# Altium footprint library PCB1.PcbLib: 30 footprints (part 1 of 2)
Each footprint in its own frame and in the unit in brackets; x right, y up, seen from the top. Pads: shape width x height; smd on the part's side, far side on the other; paste and mask are expansions set on the pad; w line width, h text height; cw(c..) or ccw(c..) is an arc to the next point about the centre after c.
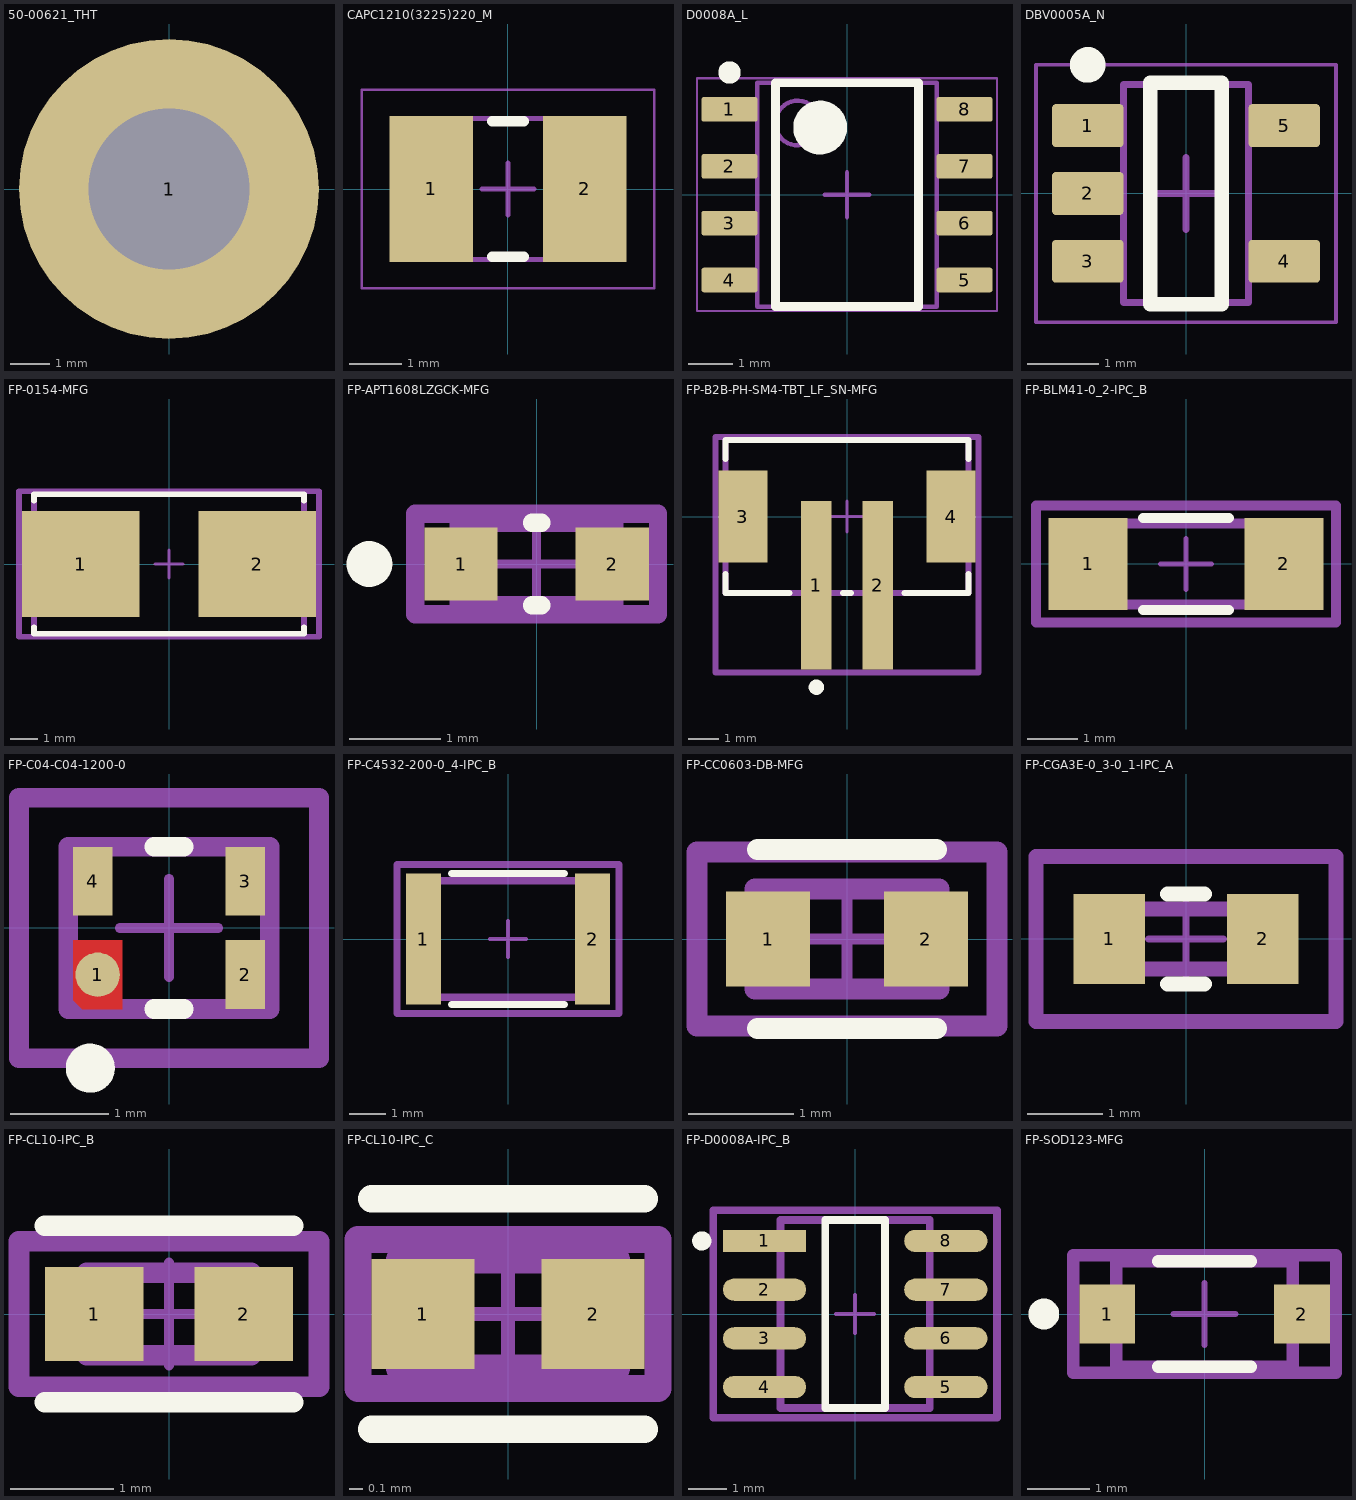
[diagram p0: the footprints below, top view; thin cyan lines are the x and y axes]

## 50-00621_THT [mm] "Connector, dc plug, 4.0x1.7x21.3 mm, mounted as THT"
height 0.6
pads (1):
  round 7.62 hole 4.1: 1(0,0)
3D body "50-00621.STEP": height 10.46, standoff -10.84, extent -2.85,-2.848 2.95,2.848

## CAPC1210(3225)220_M [mm] "Chip Capacitor, Body 3.2x2.5mm, Height 2.2mm, IPC Low Density"
height 2.2
pads (2):
  rect 1.6x2.8 smd: 1(-1.475,0) 2(1.475,0)
Top Overlay:
  lines w0.2: -0.3,-1.3 0.3,-1.3 ; -0.3,1.3 0.3,1.3
Mechanical 13:
  lines w0.1: -1.7,-1.35 1.7,-1.35 1.7,1.35 -1.7,1.35 -1.7,-1.35
Mechanical 15:
  lines w0.05: -2.8,-1.9 2.8,-1.9 2.8,1.9 -2.8,1.9 -2.8,-1.9
  lines w0.1: -0.5,0 0.5,0 ; 0,-0.5 0,0.5
3D body: height 2.2, standoff 0, extent 0.95,-1.35 1.7,1.35
3D body: height 2.2, standoff 0, extent -1.7,-1.35 -0.95,1.35
3D body: height 2.2, standoff 0, extent -0.95,-1.35 0.95,1.35

## D0008A_L [mm] "SOIC, 8-Leads, Body 5x4mm, Pitch 1.27mm, IPC High Density"
height 1.75
pads (8):
  rrect18% 1.25x0.55 smd: 1(-2.625,1.905) 2(-2.625,0.635) 3(-2.625,-0.635) 4(-2.625,-1.905) 5(2.625,-1.905) 6(2.625,-0.635) 7(2.625,0.635) 8(2.625,1.905)
Top Overlay:
  circle w0.6: c-0.6,1.5 r0.3
  circle w0.25: c-2.625,2.73 r0.125
  lines w0.2: -1.6,-2.5 1.6,-2.5 1.6,2.5 -1.6,2.5 -1.6,-2.5
Mechanical 1:
  text ".Designator" at -1.397,-0.254 h0.6
Mechanical 13:
  circle w0.1: c-1.1,1.6 r0.5
  lines w0.1: -2,-2.5 2,-2.5 2,2.5 -2,2.5 -2,-2.5
Mechanical 15:
  lines w0.05: -3.35,-2.6 3.35,-2.6 3.35,2.6 -3.35,2.6 -3.35,-2.6
  lines w0.1: -0.5,0 0.5,0 ; 0,-0.5 0,0.5
3D body "SOIC-8akaD0008AakaM08A.stp": height 1.63, standoff 0, extent -3,-2.45 3,2.45

## DBV0005A_N [mm] "SOT23, 5-Leads, Body 3.05x1.75mm, Pitch 0.95mm, IPC Medium Density"
height 1.45
pads (5):
  rrect17% 1x0.6 smd: 1(-1.375,0.95) 2(-1.375,0) 3(-1.375,-0.95) 4(1.375,-0.95) 5(1.375,0.95)
Top Overlay:
  circle w0.25: c-1.375,1.8 r0.125
  lines w0.2: -0.5,-1.55 0.5,-1.55 0.5,1.55 -0.5,1.55 -0.5,-1.55
Mechanical 1:
  text ".Designator" at -0.635,-0.254 h0.4
Mechanical 13:
  lines w0.1: -0.875,-1.525 -0.875,1.525 0.875,1.525 0.875,-1.525 -0.875,-1.525
Mechanical 15:
  lines w0.05: -2.1,-1.8 -2.1,1.8 2.1,1.8 2.1,-1.8 -2.1,-1.8
  lines w0.1: -0.5,0 0.5,0 ; 0,-0.5 0,0.5
3D body "DBV0005AaksMF05A.stp": height 1.08, standoff -0.01, extent -1.422,-1.461 1.422,1.46

## FP-0154-MFG [mm]
height 0.6
pads (2):
  rect 4.24x3.81 smd paste+0 mask+0: 1(-3.185,0) 2(3.185,0)
Top Overlay:
  lines w0.2: -4.865,-2.28 -4.865,-2.515 4.865,-2.515 4.865,-2.28 ; -4.865,2.28 -4.865,2.515 4.865,2.515 4.865,2.28
Top 3D Body:
  lines w0.2: -4.865,-2.515 -4.865,2.515 4.865,2.515 4.865,-2.515 -4.865,-2.515
Top Courtyard:
  lines w0.2: -5.405,-2.615 -5.405,2.615 5.405,2.615 5.405,-2.615 -5.405,-2.615
Top Assembly:
  lines w0.2: -5.405,-2.615 -5.405,2.615 5.405,2.615 5.405,-2.615 -5.405,-2.615
  text ".Designator" at 0,0.187 h1
Top Component Center:
  lines w0.1: -0.5,0 0.5,0 ; 0,-0.5 0,0.5
3D body "Fuse_Littelfuse_0154004_DR_eec.STEP": height 0.25, standoff 0, extent -5.405,-2.615 5.405,2.615

## FP-APT1608LZGCK-MFG [mm]
height 0.6
pads (2):
  rect 0.8x0.8 smd paste+0 mask+0: 1(-0.825,0) 2(0.825,0)
Top Overlay:
  circle w0.25: c-1.825,0 r0.125
  lines w0.2: -0.05,-0.45 0.05,-0.45 ; -0.05,0.45 0.05,0.45
Top 3D Body:
  lines w0.2: -0.85,-0.45 0.85,-0.45 0.85,0.45 -0.85,0.45 -0.85,-0.45
Top Courtyard:
  lines w0.2: -1.325,-0.55 1.325,-0.55 1.325,0.55 -1.325,0.55 -1.325,-0.55
Top Assembly:
  lines w0.2: -1.325,-0.55 1.325,-0.55 1.325,0.55 -1.325,0.55 -1.325,-0.55
  text ".Designator" at 0,-0.001 h1
Top Component Center:
  lines w0.1: -0.5,0 0.5,0 ; 0,-0.5 0,0.5
3D body "Diode_Kingbright_APT1608LZGCK_eec.STEP": height 0.25, standoff 0, extent -1.325,-0.55 1.325,0.55

## FP-B2B-PH-SM4-TBT_LF_SN-MFG [mm]
pads (4):
  rect 1x5.5 smd paste+0 mask+0: 1(-1,-2.25) 2(1,-2.25)
  rect 1.6x3 smd paste+0 mask+0: 3(-3.4,0) 4(3.4,0)
Top Overlay:
  circle w0.25: c-1,-5.575 r0.125
  lines w0.2: -3.975,-1.875 -3.975,-2.5 -1.875,-2.5 ; -3.975,1.875 -3.975,2.5 3.975,2.5 3.975,1.875 ; -0.125,-2.5 0.125,-2.5 ; 1.875,-2.5 3.975,-2.5 3.975,-1.875
Top 3D Body:
  lines w0.2: -3.975,-2.5 -3.975,2.5 3.975,2.5 3.975,-2.5 -3.975,-2.5
Top Courtyard:
  lines w0.2: -4.3,-5.1 -4.3,2.6 4.3,2.6 4.3,-5.1 -4.3,-5.1
Top Assembly:
  lines w0.2: -4.3,-5.1 -4.3,2.6 4.3,2.6 4.3,-5.1 -4.3,-5.1
  text ".Designator" at 0,-1.063 h1
Top Component Center:
  lines w0.1: -0.5,0 0.5,0 ; 0,-0.5 0,0.5
3D body "Conn_JST_B2B-PH-SM4-TBT_LF_SN_eec.STEP": height 0.25, standoff 0, extent -4.3,-5.1 4.3,2.6

## FP-BLM41-0_2-IPC_B [mm]
height 0.6
pads (2):
  rect 1.554x1.806 smd paste+0 mask+0: 1(-1.926,0) 2(1.926,0)
Top Overlay:
  lines w0.2: -0.849,-0.903 0.849,-0.903 ; -0.849,0.903 0.849,0.903
Top 3D Body:
  lines w0.2: -2.25,-0.8 2.25,-0.8 2.25,0.8 -2.25,0.8 -2.25,-0.8
Top Courtyard:
  lines w0.2: -2.953,-1.153 2.953,-1.153 2.953,1.153 -2.953,1.153 -2.953,-1.153
Top Assembly:
  lines w0.2: -2.953,-1.153 2.953,-1.153 2.953,1.153 -2.953,1.153 -2.953,-1.153
  text ".Designator" at 0,0.187 h1
Top Component Center:
  lines w0.1: -0.5,0 0.5,0 ; 0,-0.5 0,0.5
3D body "FBead_Murata_BLM41PG102SN1B_eec.STEP": height 0.25, standoff 0, extent -2.953,-1.153 2.953,1.153

## FP-C04-C04-1200-0 [mm]
pads (4):
  round 0.45 smd paste+0 mask+0: 1(-0.725,-0.475)
  rect 0.4x0.7 smd paste+0 mask+0: 2(0.775,-0.475) 3(0.775,0.475) 4(-0.775,0.475)
Top Layer:
  region: -0.975,-0.125 -0.475,-0.125 -0.475,-0.825 -0.883,-0.825 -0.975,-0.733
Top Overlay:
  circle w0.25: c-0.8,-1.425 r0.125
  lines w0.2: -0.15,-0.825 0.15,-0.825 ; -0.15,0.825 0.15,0.825
Top 3D Body:
  lines w0.2: -1.025,-0.825 1.025,-0.825 1.025,0.825 -1.025,0.825 -1.025,-0.825
Top Courtyard:
  lines w0.2: -1.525,-1.325 1.525,-1.325 1.525,1.325 -1.525,1.325 -1.525,-1.325
Top Assembly:
  lines w0.2: -1.525,-1.325 1.525,-1.325 1.525,1.325 -1.525,1.325 -1.525,-1.325
  text ".Designator" at 0,-0.001 h1
Top Component Center:
  lines w0.1: -0.5,0 0.5,0 ; 0,-0.5 0,0.5
3D body "Crys_Microchip_DSC6101MI2A-024_0000T_eec.STEP": height 0.25, standoff 0, extent -1.525,-1.325 1.525,1.325

## FP-C4532-200-0_4-IPC_B [mm]
height 0.6
pads (2):
  rect 0.953x3.603 smd paste+0 mask+0: 1(-2.325,0) 2(2.325,0)
Top Overlay:
  lines w0.2: -1.548,-1.802 1.548,-1.802 ; -1.548,1.802 1.548,1.802
Top 3D Body:
  lines w0.2: -2.25,-1.6 2.25,-1.6 2.25,1.6 -2.25,1.6 -2.25,-1.6
Top Courtyard:
  lines w0.2: -3.052,-2.052 3.052,-2.052 3.052,2.052 -3.052,2.052 -3.052,-2.052
Top Assembly:
  lines w0.2: -3.052,-2.052 3.052,-2.052 3.052,2.052 -3.052,2.052 -3.052,-2.052
  text ".Designator" at 0,0.187 h1
Top Component Center:
  lines w0.1: -0.5,0 0.5,0 ; 0,-0.5 0,0.5
3D body "Cap_TDK_C4532X7R1H475M200KB_eec.STEP": height 0.25, standoff 0, extent -3.052,-2.052 3.052,2.052

## FP-CC0603-DB-MFG [mm]
pads (2):
  rect 0.8x0.9 smd paste+0 mask+0: 1(-0.75,0) 2(0.75,0)
Top Overlay:
  lines w0.2: -0.85,-0.85 0.85,-0.85 ; -0.85,0.85 0.85,0.85
Top 3D Body:
  lines w0.2: -0.875,-0.475 0.875,-0.475 0.875,0.475 -0.875,0.475 -0.875,-0.475
Top Courtyard:
  lines w0.2: -1.425,-0.825 1.425,-0.825 1.425,0.825 -1.425,0.825 -1.425,-0.825
Top Assembly:
  lines w0.2: -1.425,-0.825 1.425,-0.825 1.425,0.825 -1.425,0.825 -1.425,-0.825
  text ".Designator" at 0,0.187 h1
Top Component Center:
  lines w0.1: -0.5,0 0.5,0 ; 0,-0.5 0,0.5
3D body "Cap_YAGEO_CC0603KRX7R9BB105_eec.STEP": height 0.25, standoff 0, extent -1.425,-0.825 1.425,0.825

## FP-CGA3E-0_3-0_1-IPC_A [mm]
height 0.6
pads (2):
  rect 0.956x1.206 smd paste+0 mask+0: 1(-1.025,0) 2(1.025,0)
Top Overlay:
  lines w0.2: -0.247,-0.603 0.247,-0.603 ; -0.247,0.603 0.247,0.603
Top 3D Body:
  lines w0.2: -0.8,-0.4 0.8,-0.4 0.8,0.4 -0.8,0.4 -0.8,-0.4
Top Courtyard:
  lines w0.2: -2.003,-1.103 2.003,-1.103 2.003,1.103 -2.003,1.103 -2.003,-1.103
Top Assembly:
  lines w0.2: -2.003,-1.103 2.003,-1.103 2.003,1.103 -2.003,1.103 -2.003,-1.103
  text ".Designator" at 0,0.187 h1
Top Component Center:
  lines w0.1: -0.5,0 0.5,0 ; 0,-0.5 0,0.5
3D body "Cap_TDK_CGA3E3X7R1E334K080AB_eec.STEP": height 0.25, standoff 0, extent -2.003,-1.103 2.003,1.103

## FP-CL10-IPC_B [mm]
pads (2):
  rect 0.958x0.912 smd paste+0 mask+0: 1(-0.727,0) 2(0.727,0)
Top Overlay:
  lines w0.2: -1.206,-0.856 1.206,-0.856 ; -1.206,0.856 1.206,0.856
Top 3D Body:
  lines w0.2: -0.8,-0.4 0.8,-0.4 0.8,0.4 -0.8,0.4 -0.8,-0.4
Top Courtyard:
  lines w0.2: -1.456,-0.706 1.456,-0.706 1.456,0.706 -1.456,0.706 -1.456,-0.706
Top Assembly:
  lines w0.2: -1.456,-0.706 1.456,-0.706 1.456,0.706 -1.456,0.706 -1.456,-0.706
  text ".Designator" at 0,0.187 h1
Top Component Center:
  lines w0.1: -0.5,0 0.5,0 ; 0,-0.5 0,0.5
3D body "Cap_Samsung_CL10B473KO8NNWC_eec.STEP": height 0.25, standoff 0, extent -1.456,-0.706 1.456,0.706

## FP-CL10-IPC_C [mm]
pads (2):
  rect 0.758x0.812 smd paste+0 mask+0: 1(-0.627,0) 2(0.627,0)
Top Overlay:
  lines w0.2: -1.006,-0.85 1.006,-0.85 ; -1.006,0.85 1.006,0.85
Top 3D Body:
  lines w0.2: -0.8,-0.4 0.8,-0.4 0.8,0.4 -0.8,0.4 -0.8,-0.4
Top Courtyard:
  lines w0.2: -1.106,-0.55 1.106,-0.55 1.106,0.55 -1.106,0.55 -1.106,-0.55
Top Assembly:
  lines w0.2: -1.106,-0.55 1.106,-0.55 1.106,0.55 -1.106,0.55 -1.106,-0.55
  text ".Designator" at 0,0.187 h1
Top Component Center:
  lines w0.1: -0.5,0 0.5,0 ; 0,-0.5 0,0.5
3D body "Cap_Samsung_CL10B473KO8NNWC_eec.STEP": height 0.25, standoff 0, extent -1.106,-0.55 1.106,0.55

## FP-D0008A-IPC_B [mm]
height 0.6
pads (8):
  rect 2.169x0.582 smd paste+0 mask+0: 1(-2.364,1.905)
  rrect100% 2.169x0.582 smd paste+0 mask+0: 2(-2.364,0.635) 3(-2.364,-0.635) 4(-2.364,-1.905) 5(2.364,-1.905) 6(2.364,-0.635) 7(2.364,0.635) 8(2.364,1.905)
Top Overlay:
  circle w0.25: c-3.998,1.905 r0.125
  lines w0.2: -0.779,-2.452 0.779,-2.452 0.779,2.452 -0.779,2.452 -0.779,-2.452
Top 3D Body:
  lines w0.2: -1.947,-2.452 1.947,-2.452 1.947,2.452 -1.947,2.452 -1.947,-2.452
Top Courtyard:
  lines w0.2: -3.698,-2.702 3.698,-2.702 3.698,2.702 -3.698,2.702 -3.698,-2.702
Top Assembly:
  lines w0.2: -3.698,-2.702 3.698,-2.702 3.698,2.702 -3.698,2.702 -3.698,-2.702
  text ".Designator" at 0,0.187 h1
Top Component Center:
  lines w0.1: -0.5,0 0.5,0 ; 0,-0.5 0,0.5
3D body "IC_Texas_Instruments_ISO7220ADR_eec.STEP": height 0.25, standoff 0, extent -3.698,-2.702 3.698,2.702

## FP-SOD123-MFG [mm]
height 0.6
pads (2):
  rect 0.9x0.95 smd paste+0 mask+0: 1(-1.575,0) 2(1.575,0)
Top Overlay:
  circle w0.25: c-2.6,0 r0.125
  lines w0.2: -0.75,-0.85 0.75,-0.85 ; -0.75,0.85 0.75,0.85
Top 3D Body:
  lines w0.2: -1.425,-0.85 1.425,-0.85 1.425,0.85 -1.425,0.85 -1.425,-0.85
Top Courtyard:
  lines w0.2: -2.125,-0.95 2.125,-0.95 2.125,0.95 -2.125,0.95 -2.125,-0.95
Top Assembly:
  lines w0.2: -2.125,-0.95 2.125,-0.95 2.125,0.95 -2.125,0.95 -2.125,-0.95
  text ".Designator" at 0,-0.001 h1
Top Component Center:
  lines w0.1: -0.5,0 0.5,0 ; 0,-0.5 0,0.5
3D body "Diode_Diodes_MBR0580S1-7_eec.STEP": height 0.25, standoff 0, extent -2.125,-0.95 2.125,0.95